# EAGLE library part L17P (library con-amp-mt)
AMP MT CONNECTOR
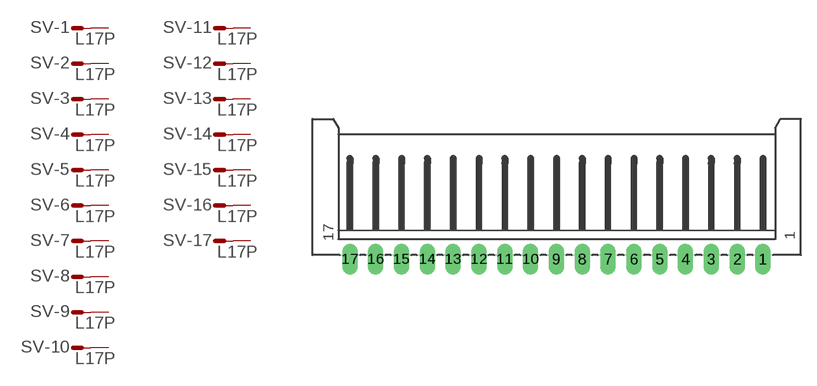
[diagram p11: symbol with the pads of L17P; footprint L17P]

Designator prefix SV; gates -1=M -2=M -3=M -4=M -5=M -6=M -7=M -8=M -9=M -10=M -11=M -12=M -13=M -14=M -15=M -16=M -17=M

## L17P  [L17P]
1  -1:S  pas
2  -2:S  pas
3  -3:S  pas
4  -4:S  pas
5  -5:S  pas
6  -6:S  pas
7  -7:S  pas
8  -8:S  pas
9  -9:S  pas
10  -10:S  pas
11  -11:S  pas
12  -12:S  pas
13  -13:S  pas
14  -14:S  pas
15  -15:S  pas
16  -16:S  pas
17  -17:S  pas

## Footprint L17P (pad centres in mm)
AMP MT CONNECTOR
drill 1.016 long: 1 20,-6.25; 2 17.5,-6.25; 3 15,-6.25; 4 12.5,-6.25; 5 10,-6.25; 6 7.5,-6.25; 7 5,-6.25; 8 2.5,-6.25; 9 0,-6.25; 10 -2.5,-6.25; 11 -5,-6.25; 12 -7.5,-6.25; 13 -10,-6.25; 14 -12.5,-6.25; 15 -15,-6.25; 16 -17.5,-6.25; 17 -20,-6.25